# EAGLE library part ATMEGA328P-AU (library pepin)
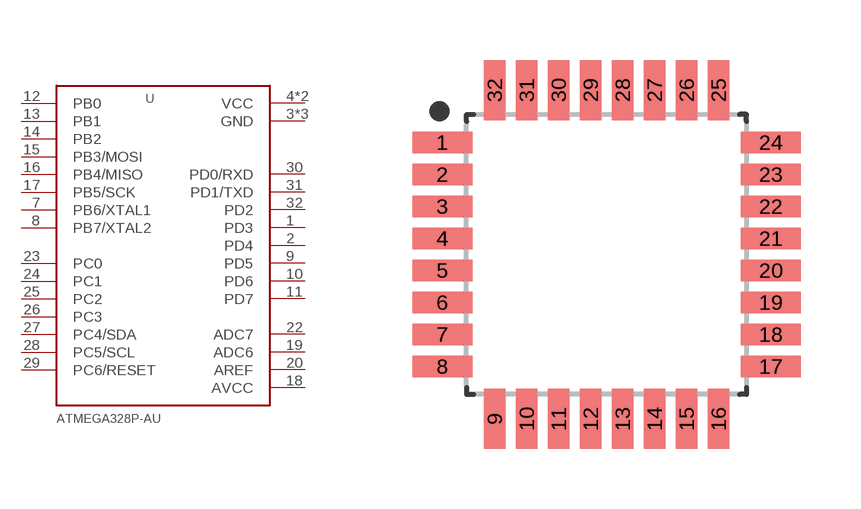
[diagram p8: symbol with the pads of QFP80P887X887X120-32; footprint QFP80P887X887X120-32]

Designator prefix U

## ATMEGA328P-AUTQFP-32  [QFP80P887X887X120-32]
1  PD3
2  PD4
3  GND  pwr
4  VCC  pwr
5  GND  pwr
6  VCC  pwr
7  PB6/XTAL1
8  PB7/XTAL2
9  PD5
10  PD6
11  PD7
12  PB0
13  PB1
14  PB2
15  PB3/MOSI
16  PB4/MISO
17  PB5/SCK
18  AVCC  pwr
19  ADC6
20  AREF
21  GND  pwr
22  ADC7
23  PC0
24  PC1
25  PC2
26  PC3
27  PC4/SDA
28  PC5/SCL
29  PC6/RESET
30  PD0/RXD
31  PD1/TXD
32  PD2

## Footprint QFP80P887X887X120-32 (pad centres in mm)
32-QFP, 0.80 mm pitch, 8.88 mm span, 6.95 X 6.95 X 1.20 mm body 32-pin QFP package with 0.80 mm pitch, 8.88 mm lead span1 X 8.88 mm lead span2 with body size 6.95 X 6.95 X 1.20 mm
smd 1.504 x 0.547: 1 -4.11,2.8; 2 -4.11,2; 3 -4.11,1.2; 4 -4.11,0.4; 5 -4.11,-0.4; 6 -4.11,-1.2; 7 -4.11,-2; 8 -4.11,-2.8; 17 4.11,-2.8; 18 4.11,-2; 19 4.11,-1.2; 20 4.11,-0.4; 21 4.11,0.4; 22 4.11,1.2; 23 4.11,2; 24 4.11,2.8
smd 0.547 x 1.504: 9 -2.8,-4.11; 10 -2,-4.11; 11 -1.2,-4.11; 12 -0.4,-4.11; 13 0.4,-4.11; 14 1.2,-4.11; 15 2,-4.11; 16 2.8,-4.11; 25 2.8,4.11; 26 2,4.11; 27 1.2,4.11; 28 0.4,4.11; 29 -0.4,4.11; 30 -1.2,4.11; 31 -2,4.11; 32 -2.8,4.11